# Altium schematic symbol library Quadcopter_Library.SchLib: 118 symbols (part 1 of 4)
Pins are listed as number, name and electrical type; pins without a type are passive.

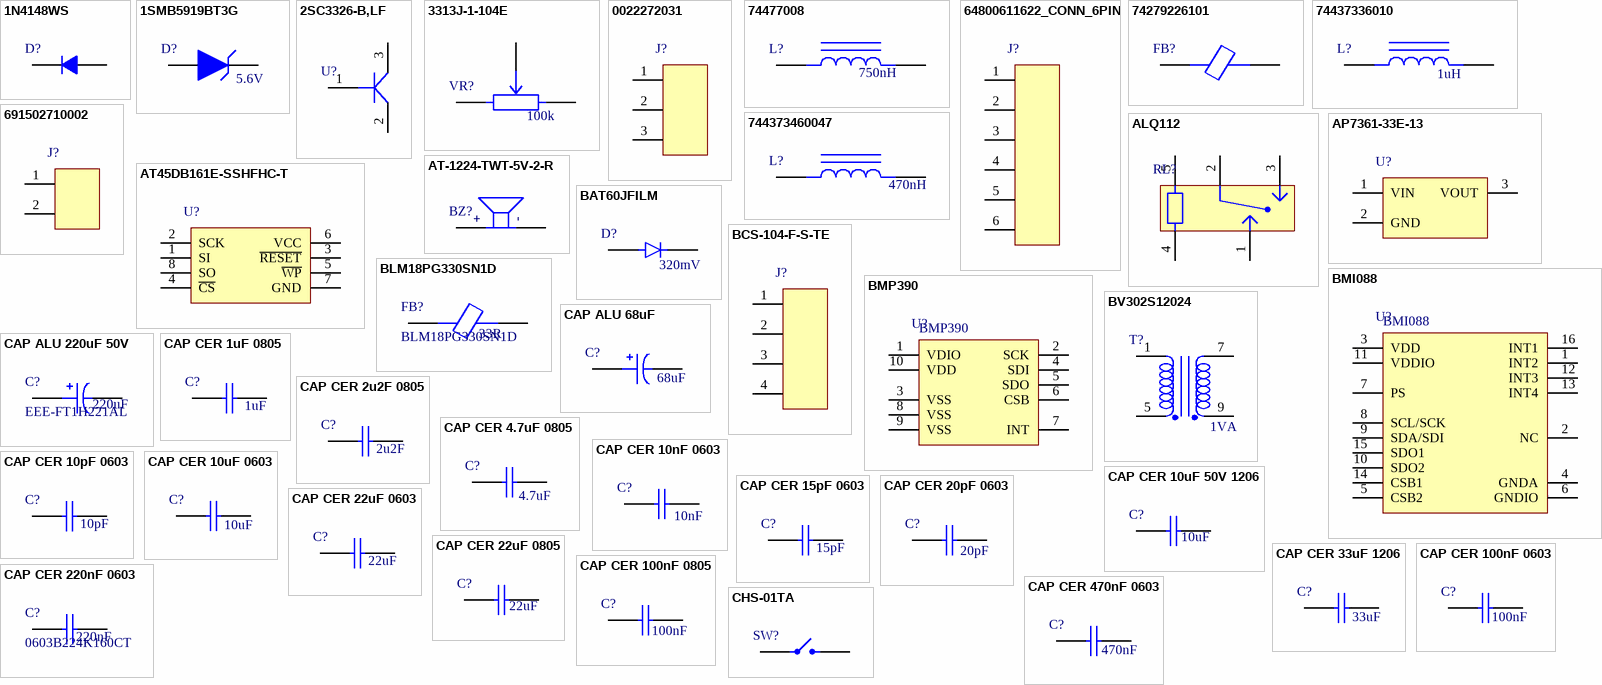
[diagram p0: symbols 1N4148WS to CHS-01TA]

## 1N4148WS
designator D?  (value not drawn)
Diode Ultra Fast Recovery Rectifier 75V 0.15A; Manufacturer: ON Semiconductor / Fairchild; Max Forward Surge Current (Ifsm): 2A; Forward Current: 150mA; Max Reverse Current: 5uA; Capacitance: 4pF; Reverse Recovery Time: 4ns; Element Configuration: Single; Designed By: Kubilay Közleme; Supplier 1: Digikey; Manufacturer Part Number: 1N4148WS; RoHS: Yes; Category: Rectifier Diodes; Stock 1: 304046; Pricing 1: 1=0.17, 10=0.104, 100=0.0639, 500=0.04644, 1000=0.04076 (USD); Mount: Surface Mount; Number of Pins: 2; Weight: 0.0276g; Min Operating Temperature: -55°C; Max Operating Temperature: 150°C; Max Repetitive Reverse Voltage (Vrrm): 75V; Reverse Voltage: 75V; Packaging: Tape and Reel; Average Rectified Current: 150mA; Max Reverse Voltage (DC): 75V; Series: -; Package Quantity: 1; Recovery Time: 4ns; Length: 1.8mm; Width: 1.35mm; Height: 1mm; Radiation Hardening: No; RoHS Compliant: Yes; Reach SVHC Compliant: No; Lead Free: 5697LeadFree; ComponentLink1URL: https://datasheet.ciiva.com/15208/getdatasheetpartid-127819-15208358.pdf?src-supplier=Verical; ComponentLink1Description: https://datasheet.ciiva.com/15208/getdatasheetpartid-127819-15208358.pdf?src-supplier=Verical; Supplier Part Number 1: 1N4148WSFSCT-ND
footprint SOD-323F
pins: 1, 2

## 1SMB5919BT3G
designator D?  Voltage Rating (DC): 5.6V  (hidden comment: 1SMB5919BT3G)
Diode Zener Single 5.6V 5% 550mW Automotive 2-Pin SMB T/R; Manufacturer: ON Semiconductor; Designed By: Kubilay Közleme; Material: 4239ConductorMaterial; Breakdown Voltage: 5.88V; Power Rating: 3W; Supplier 1: Digikey; Manufacturer Part Number: 1SMB5919BT3G; RoHS: Yes; Category: Zener Diodes; Stock 1: 16127; Pricing 1: 1=0.49, 10=0.302, 100=0.1917, 500=0.14376, 1000=0.12826 (USD); Lead Free: 5697LeadFree; Halogen Free: 5694HalogenFree; ComponentLink1URL: https://datasheet.ciiva.com/27747/1308331-27747654.pdf?src-supplier=Jameco; ComponentLink1Description: https://datasheet.ciiva.com/27747/1308331-27747654.pdf?src-supplier=Jameco; ComponentLink2URL: https://datasheet.ciiva.com/1182/1smb5913bt3-d-1182657.pdf?src-supplier=Element14; ComponentLink2Description: https://datasheet.ciiva.com/1182/1smb5913bt3-d-1182657.pdf?src-supplier=Element14; ComponentLink3URL: https://datasheet.ciiva.com/1182/1smb5913bt3-d-1182658.pdf?src-supplier=Element14; ComponentLink3Description: https://datasheet.ciiva.com/1182/1smb5913bt3-d-1182658.pdf?src-supplier=Element14; ComponentLink4URL: https://datasheet.ciiva.com/895/1smb5913bt3-d-895203.pdf?src-supplier=Digikey; ComponentLink4Description: https://datasheet.ciiva.com/895/1smb5913bt3-d-895203.pdf?src-supplier=Digikey; ComponentLink5URL: https://datasheet.ciiva.com/895/1smb5913bt3-d-895204.pdf?src-supplier=Digikey; ComponentLink5Description: https://datasheet.ciiva.com/895/1smb5913bt3-d-895204.pdf?src-supplier=Digikey; ComponentLink6URL: https://datasheet.ciiva.com/895/1smb5913bt3-d-895205.pdf?src-supplier=Digikey; ComponentLink6Description: https://datasheet.ciiva.com/895/1smb5913bt3-d-895205.pdf?src-supplier=Digikey; ComponentLink7URL: https://datasheet.ciiva.com/15198/getdatasheetpartid-311040-15198695.pdf?src-supplier=Verical; ComponentLink7Description: https://datasheet.ciiva.com/15198/getdatasheetpartid-311040-15198695.pdf?src-supplier=Verical; ComponentLink8URL: https://datasheet.ciiva.com/16311/1smb5913bt3-d-16311847.pdf?src-supplier=Future+Electronics; ComponentLink8Description: https://datasheet.ciiva.com/16311/1smb5913bt3-d-16311847.pdf?src-supplier=Future+Electronics; Supplier Part Number 1: 1SMB5919BT3GOSCT-ND
footprint SMB
pins: A, C

## 2SC3326-B,LF
designator U?  (value not drawn)
Small Signal Bipolar Transistor, 0.3A I(C), 20V V(BR)CEO, 1-Element, NPN, Silicon; Manufacturer: Toshiba; Supplier 1: Digikey; Manufacturer Part Number: 2SC3326-B,LF; RoHS: No; Category: BJTs; Stock 1: 197971; Pricing 1: 1=0.24, 10=0.159, 100=0.107, 500=0.08212, 1000=0.07378 (USD); RoHS Compliant: Yes; ComponentLink1URL: https://datasheet.ciiva.com:443/pdfs/VipMasterIC/IC/TOSC/TOSCS51235/TOSCS51235-1.pdf?src-supplier=IHS+Markit; ComponentLink1Description: https://datasheet.ciiva.com:443/pdfs/VipMasterIC/IC/TOSC/TOSCS51235/TOSCS51235-1.pdf?src-supplier=IHS+Markit; ComponentLink2URL: https://datasheet.ciiva.com/45423/6493-45423062.pdf?src-supplier=Digikey; ComponentLink2Description: https://datasheet.ciiva.com/45423/6493-45423062.pdf?src-supplier=Digikey; ComponentLink3URL: https://datasheet.ciiva.com/45423/6493-45423063.pdf?src-supplier=Digikey; ComponentLink3Description: https://datasheet.ciiva.com/45423/6493-45423063.pdf?src-supplier=Digikey; ComponentLink4URL: https://datasheet.ciiva.com/45423/6493-45423064.pdf?src-supplier=Digikey; ComponentLink4Description: https://datasheet.ciiva.com/45423/6493-45423064.pdf?src-supplier=Digikey; Supplier Part Number 1: 2SC3326-BLFDKR-ND; Parameter 1: *
footprint 2SC3326-B,LF (TO-236)
pins: 1, 2, 3

## 3313J-1-104E
designator VR?  Resistance: 100k  (hidden comment: 3313J-1-104E)
Trimmer, Cermet, 0.125W, 100000ohm, 200V, 20% +/-Tol, 100ppm/Cel, 1 Turn(s), 1413; Manufacturer: Bourns; Manufacturer Series: 3313; Actuator Orientation: Vertical; Actuator Type: SCREW; Number of Turns: 1; Rated Power Dissipation (P): 125mW; Rated Temperature: 70°C; Resistance Law: Linear; Rotational Angle: 250°; Temperature Coefficient: -100100ppm/°C; Package Height: 2.2mm; Package Length: 3.2mm; Package Width: 3.5mm; Designed By: Kubilay Közleme; Supplier 1: Digikey; Manufacturer Part Number: 3313J-1-104E; RoHS: Yes; Category: Variable Resistors and Potentiometers; Stock 1: 40223; Pricing 1: 1=1.83, 10=1.611, 25=1.4444, 50=1.3888, 100=1.3332, 250=1.27764, 500=1.05544 (USD); Mount: Surface Mount; Number of Pins: 3; Package Shape: Rectangular; Size Code: 1214; Terminal Finish: Tin; Min Operating Temperature: -55°C; Max Operating Temperature: 125°C; Tolerance: 20%; JESD-609 Code: e3; Resistor Type: TRIMMER; Construction: Rectangular; Package Style: SMTMeter; Packaging: Tape and Reel; Series: 3313; Technology: CERMET; Termination: Wraparound; Reach SVHC Compliant: Yes; RoHS Compliant: Yes; ComponentLink1URL: https://datasheet.ciiva.com:443/pdfs/VipMasterIC/IC/BOUR/BOUR-S-A0002523373/BOUR-S-A0002523373-1.pdf?src-supplier=IHS+Markit; ComponentLink1Description: https://datasheet.ciiva.com:443/pdfs/VipMasterIC/IC/BOUR/BOUR-S-A0002523373/BOUR-S-A0002523373-1.pdf?src-supplier=IHS+Markit; ComponentLink2URL: https://datasheet.ciiva.com/6197/1695326-6197399.pdf?src-supplier=Farnell; ComponentLink2Description: https://datasheet.ciiva.com/6197/1695326-6197399.pdf?src-supplier=Farnell; ComponentLink3URL: https://datasheet.ciiva.com/7953/1864507-7953226.pdf?src-supplier=Element14; ComponentLink3Description: https://datasheet.ciiva.com/7953/1864507-7953226.pdf?src-supplier=Element14; ComponentLink4URL: https://datasheet.ciiva.com/3266/3313-3266620.pdf?src-supplier=Avnet; ComponentLink4Description: https://datasheet.ciiva.com/3266/3313-3266620.pdf?src-supplier=Avnet; ComponentLink5URL: https://datasheet.ciiva.com/15156/getdatasheetpartid-133405-15156637.pdf?src-supplier=Verical; ComponentLink5Description: https://datasheet.ciiva.com/15156/getdatasheetpartid-133405-15156637.pdf?src-supplier=Verical; Supplier Part Number 1: 3313J-104EDKR-ND
footprint 3313J-1-104E
pins: CCW, CW, WIPER

## 0022272031
designator J?  (value not drawn)
Board Connector, 3 Contact(s), 1 Row(s), Male, Straight, 0.1 inch Pitch, Solder Terminal, Locking, White Insulator, Receptacle; Manufacturer: Molex; Option: General Purpose; Filter Feature: No; Mating Information: MULTIPLE MATING PARTS AVAILABLE; Number of Rows Loaded: 1; Number of Contacts: 3; Contact Pattern: RECTANGULAR; Contact Resistance: 10mR; Contact Style: SQ PIN-SKT; Durability: 25Cycles; Insulation Resistance: 1GR; Polarization Key: POLARIZED HOUSING; Rated Current (Signal): 4A; Body Breadth: 0.23inch; Body Depth: 0.46inch; Body Length: 0.3inch; Plating Thickness: 100uin; Reference Standard: UL; Reliability: COMMERCIAL; Designed By: Kubilay Közleme; Supplier 1: Digikey; Manufacturer Part Number: 22-27-2031; RoHS: Yes; Category: Headers and Wire Housings; Stock 1: 123474; Pricing 1: 1=0.46, 10=0.34, 100=0.2589, 500=0.21876, 2000=0.19237, 6000=0.1757, 10000=0.16902 (USD); Mount: Board; Contact Finish - Mating: TIN; Contact Finish - Termination: Tin (Sn); Contact Material: Brass; Insulation Color: White; Insulation Material: Nylon; Min Operating Temperature: 0°C; Max Operating Temperature: 75°C; Connector Type: BOARD CONNECTOR; JESD-609 Code: e3; Contact Gender: Male; Mixed Contacts: No; Mounting Style: STRAIGHT; Termination: Solder; Body/Shell Style: RECEPTACLE; Number Of Connectors: 1; Number Of PCB Rows: 1; PCB Contact Pattern: RECTANGULAR; Terminal Pitch: 2.54mm; Mating Contact Pitch: 0.1inch; Mounting Option 1: LOCKING; Terminal Length: 0.14inch; Flammability Rating: UL94 V-0; Reach SVHC Compliant: Yes; RoHS Compliant: Yes; DIN Conformance: No; IEC Conformance: No; MIL Conformance: No; ComponentLink1URL: https://datasheet.ciiva.com:443/pdfs/VipMasterIC/IC/MOLE/MOLE-E-A0003552261/MOLE-S-A0003534498-1.pdf?src-supplier=IHS+Markit; ComponentLink1Description: https://datasheet.ciiva.com:443/pdfs/VipMasterIC/IC/MOLE/MOLE-E-A0003552261/MOLE-S-A0003534498-1.pdf?src-supplier=IHS+Markit; Supplier Part Number 1: WM4112-ND
footprint 0022272031
pins: 1, 2, 3

## 74477008
designator L?  Inductor Value: 750nH  (hidden comment: 74477008)
General Purpose Inductor, 0.75uH, 1 Element, SMD, 4848; Manufacturer: Wurth Electronics; Designed By: Kubilay Közleme; Supplier 1: Digikey; Manufacturer Part Number: 74477008; RoHS: Yes; Category: Fixed Inductors; Stock 1: 473; Pricing 1: 1=2.39, 10=2.239, 50=2.079, 100=1.897, 250=1.695 (USD); Terminal Finish: Copper; JESD-609 Code: e1; Inductor Type: GENERAL PURPOSE INDUCTOR; Manufacturer Series: 74477008; Reach SVHC Compliant: Yes; RoHS Compliant: Yes; ComponentLink1URL: https://datasheet.ciiva.com:443/pdfs/VipMasterIC/IC/MIDC/MIDC-S-A0007237670/MIDC-S-A0007081658-1.pdf?src-supplier=IHS+Markit; ComponentLink1Description: https://datasheet.ciiva.com:443/pdfs/VipMasterIC/IC/MIDC/MIDC-S-A0007237670/MIDC-S-A0007081658-1.pdf?src-supplier=IHS+Markit; ComponentLink2URL: https://datasheet.ciiva.com/6697/74477008-6697165.pdf?src-supplier=Digikey; ComponentLink2Description: https://datasheet.ciiva.com/6697/74477008-6697165.pdf?src-supplier=Digikey; ComponentLink3URL: https://datasheet.ciiva.com/23790/1645883-23790768.pdf?src-supplier=Newark; ComponentLink3Description: https://datasheet.ciiva.com/23790/1645883-23790768.pdf?src-supplier=Newark; ComponentLink4URL: https://datasheet.ciiva.com/13320/74477008-69588-13320842.pdf?src-supplier=Mouser; ComponentLink4Description: https://datasheet.ciiva.com/13320/74477008-69588-13320842.pdf?src-supplier=Mouser; ComponentLink5URL: https://datasheet.ciiva.com/30489/0900766b81281b7c-30489835.pdf?src-supplier=Rs; ComponentLink5Description: https://datasheet.ciiva.com/30489/0900766b81281b7c-30489835.pdf?src-supplier=Rs; Supplier Part Number 1: 732-4118-1-ND
footprint 74477008
pins: 1, 2

## 64800611622_CONN_6PIN
designator J?, comment 64800611622  (value not drawn)
WR-WTB Wire-to-Board Connectors 1.50 mm 6 pin connector; Manufacturer: Wurth Electronics; Designed By: Kubilay Közleme; Supplier 1: Digikey; Manufacturer Part Number: 64800611622; RoHS: No; Category: Uncategorized; Stock 1: 1307; Pricing 1: 1=0.41, 50=0.406, 100=0.384, 250=0.361, 500=0.339 (USD); Supplier Part Number 1: 732-64800611622-ND
footprint 64800611622
pins: 1, 2, 3, 4, 5, 6

## 74279226101
designator FB?  (value not drawn)
Ferrite Chip, 1 Function(s), 8A, 2 Pin(s); Manufacturer: Wurth Electronics; DC Resistance-Max: 6mR; Max Frequency: 1.1GHz; Min Frequency: 100MHz; Number of Functions: 1; Output Impedance: 100R; Designed By: Kubilay Közleme; Supplier 1: Digikey; Manufacturer Part Number: 74279226101; RoHS: Yes; Category: Ferrite Beads and Chips; Stock 1: 41612; Pricing 1: 1=0.68, 10=0.668, 100=0.645, 500=0.62, 1000=0.597 (USD); Mount: Surface Mount; Material: Ferrite; Case Code: 1812; Min Operating Temperature: -55°C; Max Operating Temperature: 125°C; Construction: Chip Bead; Filter Type: FERRITE CHIP; Packaging: Tape and Reel; Current Rating: 8A; Length: 4.5mm; Width: 3.2mm; Height: 2.3mm; Reach SVHC Compliant: Yes; RoHS Compliant: Yes; ComponentLink1URL: https://datasheet.ciiva.com:443/pdfs/VipMasterIC/IC/MIDC/MIDC-S-A0008919821/MIDC-S-A0008919731-1.pdf?src-supplier=IHS+Markit; ComponentLink1Description: https://datasheet.ciiva.com:443/pdfs/VipMasterIC/IC/MIDC/MIDC-S-A0008919821/MIDC-S-A0008919731-1.pdf?src-supplier=IHS+Markit; ComponentLink2URL: https://datasheet.ciiva.com/11795/0900766b8103b532-11795775.pdf?src-supplier=Rs; ComponentLink2Description: https://datasheet.ciiva.com/11795/0900766b8103b532-11795775.pdf?src-supplier=Rs; ComponentLink3URL: https://datasheet.ciiva.com/1126/1696196-1126762.pdf?src-supplier=Element14; ComponentLink3Description: https://datasheet.ciiva.com/1126/1696196-1126762.pdf?src-supplier=Element14; ComponentLink4URL: https://datasheet.ciiva.com/6212/74279226101-6212616.pdf?src-supplier=Digikey; ComponentLink4Description: https://datasheet.ciiva.com/6212/74279226101-6212616.pdf?src-supplier=Digikey; ComponentLink5URL: https://datasheet.ciiva.com/4940/74279226101-72150-4940419.pdf?src-supplier=Mouser; ComponentLink5Description: https://datasheet.ciiva.com/4940/74279226101-72150-4940419.pdf?src-supplier=Mouser; ComponentLink6URL: https://datasheet.ciiva.com/23762/74279226101-23762966.pdf?src-supplier=Newark; ComponentLink6Description: https://datasheet.ciiva.com/23762/74279226101-23762966.pdf?src-supplier=Newark; ComponentLink7URL: https://datasheet.ciiva.com/6212/74279226101-6212619.pdf?src-supplier=Digikey; ComponentLink7Description: https://datasheet.ciiva.com/6212/74279226101-6212619.pdf?src-supplier=Digikey; ComponentLink8URL: https://datasheet.ciiva.com/1013/74279226101-1013739.pdf?src-supplier=Digikey; ComponentLink8Description: https://datasheet.ciiva.com/1013/74279226101-1013739.pdf?src-supplier=Digikey; ComponentLink9URL: https://datasheet.ciiva.com/48698/001087019-da-01-ml-we-mpsb-emi-mult-pow-sup-bead74279-de-en-48698459.pdf?src-supplier=Conrad; ComponentLink9Description: https://datasheet.ciiva.com/48698/001087019-da-01-ml-we-mpsb-emi-mult-pow-sup-bead74279-de-en-48698459.pdf?src-supplier=Conrad; Supplier Part Number 1: 732-3431-6-ND
footprint 74279226101 (1812)
pins: 1, 2

## 74437336010
designator L?  Inductance Value: 1uH  (hidden comment: 74437336010)
General Purpose Inductor, 1uH, 20%, 1 Element, Powdered  Iron-Core, SMD, 2220; Manufacturer: Wurth Electronics; Designed By: Kubilay Közleme; Supplier 1: Digikey; Manufacturer Part Number: 74437336010; RoHS: Yes; Category: Fixed Inductors; Stock 1: 2161; Pricing 1: 1=2.71, 50=2.517, 100=2.289, 250=2.08, 500=1.891 (USD); Terminal Finish: Copper; JESD-609 Code: e2; Inductor Type: GENERAL PURPOSE INDUCTOR; Manufacturer Series: 74437336010; Reach SVHC Compliant: Yes; RoHS Compliant: Yes; ComponentLink1URL: https://datasheet.ciiva.com:443/pdfs/VipMasterIC/IC/MIDC/MIDC-S-A0001528209/MIDC-S-A0001528770-1.pdf?src-supplier=IHS+Markit; ComponentLink1Description: https://datasheet.ciiva.com:443/pdfs/VipMasterIC/IC/MIDC/MIDC-S-A0001528209/MIDC-S-A0001528770-1.pdf?src-supplier=IHS+Markit; ComponentLink2URL: http://www.farnell.com/datasheets/1880907.pdf?src-supplier=Farnell; ComponentLink2Description: http://www.farnell.com/datasheets/1880907.pdf?src-supplier=Farnell; ComponentLink3URL: https://katalog.we-online.de/pbs/datasheet/74437336010.pdf?src-supplier=Digikey; ComponentLink3Description: https://katalog.we-online.de/pbs/datasheet/74437336010.pdf?src-supplier=Digikey; ComponentLink4URL: http://www.farnell.com/datasheets/1880907.pdf?src-supplier=Element14; ComponentLink4Description: http://www.farnell.com/datasheets/1880907.pdf?src-supplier=Element14; Supplier Part Number 1: 732-6162-6-ND
footprint 74437336010
pins: 1, 2

## 691502710002
designator J?  (value not drawn)
Terminal Block, Wtb, 2Way, 22-14Awg Rohs Compliant: Yes |Wurth Elektronik 691502710002; Manufacturer: Wurth Electronics; Designed By: Kubilay Közleme; Supplier 1: Digikey; Manufacturer Part Number: 691502710002; RoHS: No; Category: Terminal Blocks; Stock 1: 52389; Pricing 1: 1=0.69, 10=0.64, 50=0.608, 100=0.568, 450=0.486 (USD); Supplier Part Number 1: 732-691502710002-ND
footprint 691502710002
pins: 1, 2

## 744373460047
designator L?  Inductance-Nom (L): 470nH  (hidden comment: 744373460047)
General Purpose Inductor, 0.47uH, 20%, 1 Element, Powdered  Iron-Core, SMD, 2926; Manufacturer: Wurth Electronics; Core Material: Ferrite; Case/Size Code: 2926; DC Resistance (DCR): 4mR; Rated Current-Max: 11.5A; Self Resonant Frequency: 91MHz; Package Height: 2.8mm; Package Length: 7.3mm; Package Width: 6.6mm; Designed By: Kubilay Közleme; Supplier 1: Digikey; Manufacturer Part Number: 744373460047; RoHS: Yes; Category: Fixed Inductors; Stock 1: 2729; Pricing 1: 1=2.24, 10=2.204, 50=2.034, 100=1.864, 500=1.78 (USD); Terminal Finish: Copper; Min Operating Temperature: -40°C; Max Operating Temperature: 125°C; Tolerance: 20%; JESD-609 Code: e2; Construction: Chip; Inductor Type: GENERAL PURPOSE INDUCTOR; Manufacturer Series: 744373460047; Package Style: SMTMeter; Packaging: Tape and Reel; Series: 744373460047; Reach SVHC Compliant: Yes; RoHS Compliant: Yes; ComponentLink1URL: https://datasheet.ciiva.com:443/pdfs/VipMasterIC/IC/MIDC/MIDC-S-A0001527085/MIDC-S-A0001527019-1.pdf?src-supplier=IHS+Markit; ComponentLink1Description: https://datasheet.ciiva.com:443/pdfs/VipMasterIC/IC/MIDC/MIDC-S-A0001527085/MIDC-S-A0001527019-1.pdf?src-supplier=IHS+Markit; ComponentLink2URL: https://datasheet.ciiva.com/6698/744373460047-6698215.pdf?src-supplier=Digikey; ComponentLink2Description: https://datasheet.ciiva.com/6698/744373460047-6698215.pdf?src-supplier=Digikey; ComponentLink3URL: https://datasheet.ciiva.com/7892/1735834-7892729.pdf?src-supplier=Element14; ComponentLink3Description: https://datasheet.ciiva.com/7892/1735834-7892729.pdf?src-supplier=Element14; ComponentLink4URL: https://datasheet.ciiva.com/4961/744373460047-82358-4961055.pdf?src-supplier=Mouser; ComponentLink4Description: https://datasheet.ciiva.com/4961/744373460047-82358-4961055.pdf?src-supplier=Mouser; ComponentLink5URL: https://datasheet.ciiva.com/25608/0900766b810c01f2-25608139.pdf?src-supplier=Rs; ComponentLink5Description: https://datasheet.ciiva.com/25608/0900766b810c01f2-25608139.pdf?src-supplier=Rs; ComponentLink6URL: https://datasheet.ciiva.com/14124/744373460047-14124029.pdf?src-supplier=Distrelec; ComponentLink6Description: https://datasheet.ciiva.com/14124/744373460047-14124029.pdf?src-supplier=Distrelec; ComponentLink7URL: https://datasheet.ciiva.com/48691/001087570-da-01-ml-we-lhmi-smd-speicherdrossel-744373-de-en-48691590.pdf?src-supplier=Conrad; ComponentLink7Description: https://datasheet.ciiva.com/48691/001087570-da-01-ml-we-lhmi-smd-speicherdrossel-744373-de-en-48691590.pdf?src-supplier=Conrad; Supplier Part Number 1: 732-3366-6-ND
footprint 744373460047
pins: 1, 2

## ALQ112
designator RL?  (value not drawn)
Electromechanical Relay 12VDC 360Ohm 10(NO)/3(NC)A SPDT (( 20mm 10mm 16mm)) THT Power Relay; Manufacturer: Panasonic; Designed By: Kubilay Közleme; Supplier 1: Digikey; Manufacturer Part Number: ALQ112; RoHS: Yes; Category: Power Relays; Stock 1: 22091; Pricing 1: 1=1.28, 10=1.204, 25=1.0704, 50=1.017, 100=0.9635, 300=0.85647, 500=0.80296, 1000=0.74942, 5000=0.72266 (USD); ComponentLink1URL: https://datasheet.ciiva.com/24388/307ds-61b20-en-lq-24388909.pdf?src-supplier=Onlinecomponents.com; ComponentLink1Description: https://datasheet.ciiva.com/24388/307ds-61b20-en-lq-24388909.pdf?src-supplier=Onlinecomponents.com; Supplier Part Number 1: 255-3562-ND; Case/Package: ALQ112
footprint ALQ112
pins: 1, 2, 3, 4, 5

## AP7361-33E-13
designator U?  (value not drawn)
AP7361 Series 3.3 V 1 A Low SMT Dropout Fixed-Mode Regulator - SOT-223; Manufacturer: Diodes; Number of Outputs: 1; Min Input Voltage: 2.2V; Max Input Voltage: 6V; Max Output Current: 1A; Output Voltage: 3.3V; Max Power Dissipation: 1.1W; Dropout Voltage: 500mV; Min Current Limit: 1.1A; Polarity: Positive; Quiescent Current: 70uA; Power Dissipation: 1.1kW; Accuracy: 1%; Power Supply Rejection Ratio (PSRR): 65dB; Reference Voltage: 800mV; Output Type: Fixed; Designed By: Kubilay Közleme; Supplier 1: Digikey; Manufacturer Part Number: AP7361-33E-13; RoHS: Yes; Category: Voltage Regulators - Linear; Stock 1: 111269; Pricing 1: 1=0.51, 10=0.414, 25=0.3788, 100=0.2818, 250=0.2554, 500=0.21138, 1000=0.15853 (USD); Mount: Surface Mount; Case/Package: SOT-223; Number of Pins: 4; Weight: 0.000282oz; Contact Plating: Tin,Matte; Min Operating Temperature: -40°C; Max Operating Temperature: 85°C; Package Quantity: 1; Packaging: Tape and Reel; Output Current: 1A; Number of Regulators: 1; Series: -; Radiation Hardening: No; Reach SVHC Compliant: Yes; Lead Free: Lead Free; RoHS Compliant: Yes; ComponentLink1URL: https://datasheet.ciiva.com/26926/getdatasheetpartid-670786-26926141.pdf?src-supplier=Verical; ComponentLink1Description: https://datasheet.ciiva.com/26926/getdatasheetpartid-670786-26926141.pdf?src-supplier=Verical; ComponentLink2URL: https://datasheet.ciiva.com/29568/ap7361-29568378.pdf?src-supplier=Digikey; ComponentLink2Description: https://datasheet.ciiva.com/29568/ap7361-29568378.pdf?src-supplier=Digikey; Supplier Part Number 1: AP7361-33E-13DIDKR-ND
footprint SOT223
pins: 1 VIN, 2 GND, 3 VOUT

## AT45DB161E-SSHFHC-T
designator U?  (value not drawn)
IC FLASH 16MBIT SPI 85MHZ 8SOIC; Manufacturer: Renesas; Designed By: Kubilay Közleme; Supplier 1: Digikey; Manufacturer Part Number: AT45DB161E-SSHFHC-T; RoHS: No; Stock 1: 95294; Pricing 1: 1=2.85, 10=2.566, 25=2.526, 50=2.5196, 100=2.2513, 250=2.17732, 500=2.16942, 1000=2.02012 (USD); ComponentLink1URL: https://datasheet.ciiva.com:443/pdfs/VipMasterIC/IC/DIAL/DIAL-S-A0012811765/DIAL-S-A0012903641-1.pdf?src-supplier=IHS+Markit; ComponentLink1Description: https://datasheet.ciiva.com:443/pdfs/VipMasterIC/IC/DIAL/DIAL-S-A0012811765/DIAL-S-A0012903641-1.pdf?src-supplier=IHS+Markit; Supplier Part Number 1: AT45DB161E-SSHFHC-TDKR-ND
footprint SOIC-8
pins: 1 SI, 2 SCK, 3 ~{RESET}, 4 ~{CS}, 5 ~{WP}, 6 VCC, 7 GND, 8 SO

## AT-1224-TWT-5V-2-R
designator BZ?  (value not drawn)
Audio Signaling/Alarm Devices; Manufacturer: Projects Unlimited; Designed By: Kubilay Közleme; Supplier 1: Digikey; Manufacturer Part Number: AT-1224-TWT-5V-2-R; RoHS: Yes; Category: Audio Products; Stock 1: 27971; Pricing 1: 1=0.51, 10=0.419, 25=0.3864, 40=0.3705, 100=0.3414, 300=0.3098, 500=0.29614, 1000=0.27865, 4900=0.24261 (USD); ComponentLink1URL: https://datasheet.ciiva.com:443/pdfs/VipMasterIC/IC/PUIA/PUIA-S-A0001553786/PUIA-S-A0001553786-1.pdf?src-supplier=IHS+Markit; ComponentLink1Description: https://datasheet.ciiva.com:443/pdfs/VipMasterIC/IC/PUIA/PUIA-S-A0001553786/PUIA-S-A0001553786-1.pdf?src-supplier=IHS+Markit; ComponentLink2URL: http://www.mouser.com/ds/2/334/AT-1224-TWT-5V-2-R-532234.pdf?src-supplier=Mouser; ComponentLink2Description: http://www.mouser.com/ds/2/334/AT-1224-TWT-5V-2-R-532234.pdf?src-supplier=Mouser; ComponentLink3URL: http://www.puiaudio.com/pdf/AT-1224-TWT-5V-2-R.pdf?src-supplier=Digikey; ComponentLink3Description: http://www.puiaudio.com/pdf/AT-1224-TWT-5V-2-R.pdf?src-supplier=Digikey; ComponentLink4URL: http://www.puiaudio.com/pdf/AT-1224-TWT-5V-2-R.pdf?src-supplier=Avnet; ComponentLink4Description: http://www.puiaudio.com/pdf/AT-1224-TWT-5V-2-R.pdf?src-supplier=Avnet; Supplier Part Number 1: 668-1470-ND
footprint AT-1224-TWT-5V-2-R
pins: N -, P +

## BAT60JFILM
designator D?  Forward Voltage-Max (VF): 320mV  (hidden comment: BAT60JFILM)
Rectifier Diode, Schottky, 1 Phase, 1 Element, 3A, 10V V(RRM), Silicon; Manufacturer: STMicroelectronics; Package Body Material: Plastic; Application(s): GENERAL PURPOSE; Non-rep Pk Forward Current-Max: 5A; Number of Elements: 1; Max Power Dissipation: 310mW; Time @ Peak Reflow Temperature-Max (s): 30s; Qualification Status: Not Qualified; Designed By: Kubilay Közleme; Supplier 1: Digikey; Manufacturer Part Number: BAT60JFILM; RoHS: Yes; Category: Rectifier Diodes; Stock 1: 166671; Pricing 1: 1=0.22, 10=0.15, 100=0.1007, 500=0.07718, 1000=0.06926 (USD); Number of Pins: 2; Diode Element Material: SILICON; Package Shape: Rectangular; Terminal Finish: Tin; Max Operating Temperature: 150°C; JESD-609 Code: e3; Diode Type: RECTIFIER; JESD-30 Code: R-PDSO-G2; Moisture Sensitivity Level: 1; Number of Phases: 1; Max Output Current: 3A; Package Style: SMALL OUTLINEMeter; Peak Reflow Temperature (Cel): 260°C; Rep Pk Reverse Voltage-Max: 10V; Surface Mount: Yes; Technology: SCHOTTKY; Terminal Form: Gull Wing; Terminal Position: DUAL; Reach SVHC Compliant: Yes; RoHS Compliant: Yes; ComponentLink1URL: https://datasheet.ciiva.com:443/pdfs/VipMasterIC/IC/SGST/SGSTS19081/SGSTS19081-1.pdf?src-supplier=IHS+Markit; ComponentLink1Description: https://datasheet.ciiva.com:443/pdfs/VipMasterIC/IC/SGST/SGSTS19081/SGSTS19081-1.pdf?src-supplier=IHS+Markit; ComponentLink2URL: https://datasheet.ciiva.com/1200/1689728-1200741.pdf?src-supplier=Farnell; ComponentLink2Description: https://datasheet.ciiva.com/1200/1689728-1200741.pdf?src-supplier=Farnell; ComponentLink3URL: https://datasheet.ciiva.com/4714/cd00001944-96586-4714681.pdf?src-supplier=Mouser; ComponentLink3Description: https://datasheet.ciiva.com/4714/cd00001944-96586-4714681.pdf?src-supplier=Mouser; ComponentLink4URL: https://datasheet.ciiva.com/23916/cd00001944-23916545.pdf?src-supplier=Newark; ComponentLink4Description: https://datasheet.ciiva.com/23916/cd00001944-23916545.pdf?src-supplier=Newark; ComponentLink5URL: https://datasheet.ciiva.com/17078/bat60jfilm-17078717.pdf?src-supplier=Allied+Electronics; ComponentLink5Description: https://datasheet.ciiva.com/17078/bat60jfilm-17078717.pdf?src-supplier=Allied+Electronics; ComponentLink6URL: https://datasheet.ciiva.com/915/cd00001944-915607.pdf?src-supplier=Digikey; ComponentLink6Description: https://datasheet.ciiva.com/915/cd00001944-915607.pdf?src-supplier=Digikey; ComponentLink7URL: https://datasheet.ciiva.com/915/cd00001944-915608.pdf?src-supplier=Digikey; ComponentLink7Description: https://datasheet.ciiva.com/915/cd00001944-915608.pdf?src-supplier=Digikey; ComponentLink8URL: https://datasheet.ciiva.com/915/cd00001944-915609.pdf?src-supplier=Digikey; ComponentLink8Description: https://datasheet.ciiva.com/915/cd00001944-915609.pdf?src-supplier=Digikey; ComponentLink9URL: https://datasheet.ciiva.com/15144/getdatasheetpartid-91415-15144683.pdf?src-supplier=Verical; ComponentLink9Description: https://datasheet.ciiva.com/15144/getdatasheetpartid-91415-15144683.pdf?src-supplier=Verical; Supplier Part Number 1: 497-3707-1-ND
footprint SOD-323
pins: A, C

## BCS-104-F-S-TE
designator J?  (value not drawn)
Board Connector, 4 Contact(s), 1 Row(s), Female, Straight, Solder Terminal, Socket; Manufacturer: Samtec; Manufacturer Series: BCS-1; Option: General Purpose; Filter Feature: No; Mating Information: MULTIPLE MATING PARTS AVAILABLE; Number of Rows Loaded: 1; Number of Contacts: 4; Designed By: Kubilay Közleme; Supplier 1: Digikey; Manufacturer Part Number: BCS-104-F-S-TE; RoHS: Yes; Category: Connectors; Stock 1: 3894; Pricing 1: 1=1.14, 50=0.951, 100=0.8128, 500=0.7223, 1000=0.6375 (USD); Mount: Board; Contact Material: Bronze; Contact Finish - Mating: GOLD FLASH (3) OVER NICKEL (50); Contact Finish - Termination: Tin (Sn) - with Nickel (Ni) barrier; Connector Type: BOARD CONNECTOR; JESD-609 Code: e3; Body/Shell Style: SOCKET; Contact Gender: Female; Mixed Contacts: No; Mounting Style: STRAIGHT; Termination: Solder; Terminal Pitch: 2.54mm; Flammability Rating: UL94 V-0; DIN Conformance: No; IEC Conformance: No; MIL Conformance: No; Reach SVHC Compliant: Yes; RoHS Compliant: Yes; ComponentLink1URL: https://datasheet.ciiva.com:443/pdfs/VipMasterIC/IC/SAMI/SAMI-S-A0002541218/SAMI-S-A0002541218-1.pdf?src-supplier=IHS+Markit; ComponentLink1Description: https://datasheet.ciiva.com:443/pdfs/VipMasterIC/IC/SAMI/SAMI-S-A0002541218/SAMI-S-A0002541218-1.pdf?src-supplier=IHS+Markit; ComponentLink2URL: https://datasheet.ciiva.com/10180/bcs-10180171.pdf?src-supplier=Avnet; ComponentLink2Description: https://datasheet.ciiva.com/10180/bcs-10180171.pdf?src-supplier=Avnet; Supplier Part Number 1: BCS-104-F-S-TE-ND
footprint BCS-104-F-S-TE
pins: 1, 2, 3, 4

## BLM18PG330SN1D
designator FB?  Impedance: 33R
Ferrite Beads Multi-Layer 33 Ohm 25% 100MHz 3A 25m Ohm DCR 0603 Paper; Manufacturer: Murata; Manufacturer Series: BLM18P; Material: Steel,Ferrite; Resistance: 25mR; Number of Lines: 1; Shielding: Unshielded; Designed By: Kubilay Közleme; Supplier 1: Digikey; Manufacturer Part Number: BLM18PG330SN1D; RoHS: Yes; Category: Ferrite Beads and Chips; Stock 1: 80000; Pricing 1: 4000=0.0223, 8000=0.01943, 12000=0.01785, 20000=0.01725 (USD); Case/Package: 0603; Number of Pins: 2; Core Material: Ferrite; Case Code (Metric): 1608; Case Code (Imperial): 0603; Terminal Finish: Tin; Min Operating Temperature: -55°C; Max Operating Temperature: 125°C; Package Quantity: 1; Tolerance: 25%; Packaging: Tape and Reel; Current Rating: 3A; ESR (Equivalent Series Resistance): 33R; Max Current Rating: 3A; DC Resistance (DCR): 25mR; Max DC Current: 3A; Termination: SMD/SMT; Test Frequency: 100MHz; DC Current: 3A; Number of Circuits: 1; Series: BLM18P; DC Resistance-Max: 25mR; Number of Functions: 1; RMS Current (Irms): 3A; Series Resistance: 25mR; Length: 1.6mm; Width: 0.8mm; Height: 0.8mm; Depth: 0.8mm; Radiation Hardening: No; Reach SVHC Compliant: No; Lead Free: Lead Free; RoHS Compliant: Yes; ComponentLink1URL: https://datasheet.ciiva.com/8021/5148-8021488.pdf?src-supplier=Element14; ComponentLink1Description: https://datasheet.ciiva.com/8021/5148-8021488.pdf?src-supplier=Element14; ComponentLink2URL: https://datasheet.ciiva.com/19458/1845056-19458409.pdf?src-supplier=Jameco; ComponentLink2Description: https://datasheet.ciiva.com/19458/1845056-19458409.pdf?src-supplier=Jameco; ComponentLink3URL: https://datasheet.ciiva.com/1012/l0110s0100blm18p-1012160.pdf?src-supplier=Digikey; ComponentLink3Description: https://datasheet.ciiva.com/1012/l0110s0100blm18p-1012160.pdf?src-supplier=Digikey; ComponentLink4URL: https://datasheet.ciiva.com/11799/0900766b81275ca5-11799524.pdf?src-supplier=Rs; ComponentLink4Description: https://datasheet.ciiva.com/11799/0900766b81275ca5-11799524.pdf?src-supplier=Rs; ComponentLink5URL: https://datasheet.ciiva.com/1012/l0110s0100blm18p-1012159.pdf?src-supplier=Digikey; ComponentLink5Description: https://datasheet.ciiva.com/1012/l0110s0100blm18p-1012159.pdf?src-supplier=Digikey; ComponentLink6URL: https://datasheet.ciiva.com/1012/l0110s0100blm18p-1012158.pdf?src-supplier=Digikey; ComponentLink6Description: https://datasheet.ciiva.com/1012/l0110s0100blm18p-1012158.pdf?src-supplier=Digikey; ComponentLink7URL: https://datasheet.ciiva.com/16420/l0110s0100blm18p-16420745.pdf?src-supplier=Future+Electronics; ComponentLink7Description: https://datasheet.ciiva.com/16420/l0110s0100blm18p-16420745.pdf?src-supplier=Future+Electronics; Supplier Part Number 1: 490-5220-2-ND
footprint BLM18PG330SN1D
pins: 1, 2

## BMI088
designator U?
BMI088 Series 3.6 V 6 Axis Digital Output Accelerometer Motion Sensor - LGA-16; Manufacturer: Bosch Tools; Designed By: Kubilay Közleme; Supplier 1: Digikey; RoHS: No; Category: Linear ICs; Stock 1: 2439; Pricing 1: 1=6.94, 5=5.854, 10=5.44, 25=4.9368, 50=4.5878, 100=4.2636, 500=3.59692, 1000=3.34313 (USD); ComponentLink1URL: https://ae-bst.resource.bosch.com/media/_tech/media/product_flyer/Bosch_Sensortec_Product_flyer_BMI088.pdf?src-supplier=Digikey; ComponentLink1Description: https://ae-bst.resource.bosch.com/media/_tech/media/product_flyer/Bosch_Sensortec_Product_flyer_BMI088.pdf?src-supplier=Digikey; ComponentLink2URL: https://ae-bst.resource.bosch.com/media/_tech/media/application_notes/BST-MIS-HS001.pdf?src-supplier=Digikey; ComponentLink2Description: https://ae-bst.resource.bosch.com/media/_tech/media/application_notes/BST-MIS-HS001.pdf?src-supplier=Digikey; Supplier Part Number 1: 828-1082-1-ND; Manufacturer Part Number: BMI088
footprint BMI088 (LGA-10)
pins: 1 INT2, 2 NC, 3 VDD, 4 GNDA, 5 CSB2, 6 GNDIO, 7 PS, 8 SCL/SCK, 9 SDA/SDI, 10 SDO2, 11 VDDIO, 12 INT3, 13 INT4, 14 CSB1, 15 SDO1, 16 INT1

## BMP390
designator U?
Board Mount Pressure Sensor 300hPa to 1250hPa Barometric 10-Pin LGA Module T/R; Manufacturer: Bosch Tools; Designed By: Kubilay Közleme; Supplier 1: Digikey; RoHS: No; Category: Linear ICs; Stock 1: 20995; Pricing 1: 1=4.17, 5=3.512, 10=3.264, 25=2.9616, 50=2.752, 100=2.5575, 500=2.15742, 1000=2.00514, 5000=1.7 (USD); Supplier Part Number 1: 828-BMP390CT-ND; Manufacturer Part Number: BMP390
footprint BMP390 - 10LGA
pins: 1 VDIO, 2 SCK, 3 VSS, 4 SDI, 5 SDO, 6 CSB, 7 INT, 8 VSS, 9 VSS, 10 VDD

## BV302S12024
designator T?  (value not drawn)
2.4VA Encapsulated Transformer 50/60Hz; Manufacturer: Zettler Magnetics; Designed By: Kubilay Közleme; Supplier 1: DigiKey; Manufacturer Part Number: BV302S12024; Stock 1: 298; Pricing 1: 1=3.75, 15=3.038, 30=2.45633, 60=2.30117, 105=2.19771, 255=2.13314, 510=2.06847, 1005=2.00384, 5010=1.84224 (USD); ComponentLink1URL: https://datasheet.octopart.com/BV302S12024-Zettler-Magnetics-datasheet-86381448.pdf?src-supplier=Future+Electronics; ComponentLink1Description: https://datasheet.octopart.com/BV302S12024-Zettler-Magnetics-datasheet-86381448.pdf?src-supplier=Future+Electronics; Supplier Part Number 1: 3388-BV302S12024-ND
footprint BV302S
pins: 1, 5, 7, 9
text: 1VA

## CAP ALU 68uF
designator C?, comment value 68uF  (hidden comment: EEV686M035A9HAA)
Cap Aluminum Lytic 68uF 35V 20%( 6.3 X 7.7mm) SMD 0.34 Ohm 280mA 2000h 105C T/R; Manufacturer: KEMET; Designed By: Kubilay Közleme; Supplier 1: Digikey; Manufacturer Part Number: EEV686M035A9HAA; RoHS: Yes; Category: Aluminum Electrolytic Capacitors; Stock 1: 22750; Pricing 1: 1=0.41, 10=0.277, 50=0.2204, 100=0.1819, 500=0.14214 (USD); ComponentLink1URL: https://datasheet.ciiva.com/5365/kem-a4002-eev-535332-5365784.pdf?src-supplier=Mouser; ComponentLink1Description: https://datasheet.ciiva.com/5365/kem-a4002-eev-535332-5365784.pdf?src-supplier=Mouser; Supplier Part Number 1: 399-6722-1-ND
footprint CAP_EEVseries
pins: 1, 2

## CAP ALU 220uF 50V
designator C?, comment EEE-FT1H221AL  Capacitance Value: 220uF
Cap Aluminum Lytic 220uF 50V 20% (8 X 10.2mm) SMD 0.18 Ohm 670mA 2000h 105C Automotive T/R; Manufacturer: Panasonic; Designed By: Kubilay Közleme; Supplier 1: Digikey; Manufacturer Part Number: EEE-FT1H221AL; RoHS: No; Category: Capacitors; Stock 1: 468; Pricing 1: 1=1.24, 10=0.773, 50=0.5852, 100=0.5266 (USD); ComponentLink1URL: https://datasheet.octopart.com/EEEFT1H221AL-Panasonic-datasheet-166314008.pdf?src-supplier=Farnell; ComponentLink1Description: https://datasheet.octopart.com/EEEFT1H221AL-Panasonic-datasheet-166314008.pdf?src-supplier=Farnell; Supplier Part Number 1: 10-EEE-FT1H221ALDKR-ND
footprint EEE-FT1H221AL
pins: 1, 2

## CAP CER 1uF 0805
designator C?, comment Capacitance: 1uF  (hidden comment: CL21B105KBFNNNE)
Multilayer Ceramic Capacitor, 1 uF, 50 V, ï¿½ 10%, X7R, 0805 [2012 Metric]; Manufacturer: Samsung; Voltage Rating (DC): 50V; Designed By: Kubilay Közleme; Supplier 1: Digikey; Manufacturer Part Number: CL21B105KBFNNNE; RoHS: Yes; Category: Ceramic Capacitors; Stock 1: 1081238; Pricing 1: 1=0.11, 10=0.075, 50=0.045, 100=0.0354, 500=0.02616, 1000=0.02165 (USD); Mount: Surface Mount; Case/Package: 0805; Material: Ceramic; Case Code (Metric): 2012; Case Code (Imperial): 0805; Min Operating Temperature: -55°C; Max Operating Temperature: 125°C; Tolerance: 10%; Packaging: Tape and Reel; Package Quantity: 1; Voltage Rating: 50V; Dielectric: X7R; Voltage: 50V; Series: CL; Construction: Flat; Length: 2mm; Width: 0.049inch; Height: 1.25mm; Thickness: 0.053inch; Depth: 1.25mm; Radiation Hardening: No; RoHS Compliant: Yes; ComponentLink1URL: https://datasheet.ciiva.com/25800/cl21b105kbfnnne-25800291.pdf?src-supplier=Digikey; ComponentLink1Description: https://datasheet.ciiva.com/25800/cl21b105kbfnnne-25800291.pdf?src-supplier=Digikey; Supplier Part Number 1: 1276-1029-1-ND
footprint CAP_0805
pins: 1, 2

## CAP CER 2u2F 0805
designator C?, comment Capacitor Value: 2u2F  (hidden comment: C0805C225K5RACAUTO)
Ceramic Capacitor, Multilayer, Ceramic, 50V, 10% +Tol, 10% -Tol, X7R, 15% TC, 2.2uF, Surface Mount, 0805; Manufacturer: KEMET; Designed By: Kubilay Közleme; Supplier 1: Digikey; Manufacturer Part Number: C0805C225K5RACAUTO; RoHS: No; Category: Ceramic Capacitors; Stock 1: 2500; Pricing 1: 2500=0.20006, 5000=0.18756, 12500=0.17193, 25000=0.1688 (USD); Supplier Part Number 1: 399-C0805C225K5RACAUTOTR-ND
footprint CAP_0805
pins: 1, 2

## CAP CER 4.7uF 0805
designator C?, comment Capacitance: 4.7uF  (hidden comment: CL21A475KAQNNNE)
Multilayer Ceramic Capacitor, 4.7 uF, 25 V, ± 10%, X5R, 0805 [2012 Metric]; Manufacturer: Samsung; Voltage Rating: 25V; Designed By: Kubilay Közleme; Supplier 1: Digikey; Manufacturer Part Number: CL21A475KAQNNNE; RoHS: Yes; Category: Ceramic Capacitors; Stock 1: 3035721; Pricing 1: 1=0.1, 10=0.069, 50=0.0414, 100=0.0326, 500=0.02408, 1000=0.01994 (USD); Mount: Surface Mount; Case/Package: 0805; Case Code (Metric): 2012; Case Code (Imperial): 0805; Material: Ceramic; Min Operating Temperature: -55°C; Max Operating Temperature: 85°C; Packaging: Tape and Reel; Tolerance: 10%; Dielectric: X5R; Voltage Rating (DC): 25V; Series: CL; Construction: Flat; Length: 2mm; Height: 1.25mm; Depth: 1.25mm; Radiation Hardening: No; Lead Free: Lead Free; RoHS Compliant: Yes; ComponentLink1URL: https://datasheet.ciiva.com/25798/cl21a475kaqnnne-25798882.pdf?src-supplier=Digikey; ComponentLink1Description: https://datasheet.ciiva.com/25798/cl21a475kaqnnne-25798882.pdf?src-supplier=Digikey; Supplier Part Number 1: 1276-1244-1-ND
footprint CAP_0805
pins: 1, 2

## CAP CER 10nF 0603
designator C?, comment value 10nF  (hidden comment: 0603B103K160CT)
0603 16V X7R .01uF 10% multilayer ceramic capacitor; Manufacturer: Walsin Technologies; Designed By: Kubilay Közleme; Supplier 1: Digikey; Manufacturer Part Number: 0603B103K160CT; RoHS: Yes; Category: Ceramic Capacitors; Stock 1: 65786; Pricing 1: 1=0.1, 10=0.031, 50=0.018, 100=0.0139, 500=0.0105, 1000=0.00825 (USD); Lead Free: 5697LeadFree; ComponentLink1URL: http://www.farnell.com/datasheets/1958513.pdf?src-supplier=Farnell; ComponentLink1Description: http://www.farnell.com/datasheets/1958513.pdf?src-supplier=Farnell; ComponentLink2URL: https://datasheet.octopart.com/0603B103K160CT-Walsin-Technologies-datasheet-136037192.pdf?src-supplier=Future+Electronics; ComponentLink2Description: https://datasheet.octopart.com/0603B103K160CT-Walsin-Technologies-datasheet-136037192.pdf?src-supplier=Future+Electronics; ComponentLink3URL: http://www.passivecomponent.com/wp-content/uploads/2018/10/MLCC.pdf?src-supplier=Digikey; ComponentLink3Description: http://www.passivecomponent.com/wp-content/uploads/2018/10/MLCC.pdf?src-supplier=Digikey; ComponentLink4URL: https://datasheet.octopart.com/0603B103K160CT-Walsin-Technologies-datasheet-85392065.pdf?src-supplier=Element14; ComponentLink4Description: https://datasheet.octopart.com/0603B103K160CT-Walsin-Technologies-datasheet-85392065.pdf?src-supplier=Element14; ComponentLink5URL: https://datasheet.octopart.com/0603B103K160CT-Walsin-Technologies-datasheet-62066062.pdf?src-supplier=TME; ComponentLink5Description: https://datasheet.octopart.com/0603B103K160CT-Walsin-Technologies-datasheet-62066062.pdf?src-supplier=TME; Supplier Part Number 1: 1292-1384-1-ND
footprint CAP_0603
pins: 1, 2

## CAP CER 10pF 0603
designator C?, comment Capacitance: 10pF  (hidden comment: CC0603FPNPO9BN100)
Ceramic Capacitor, Multilayer, Ceramic, 50V, 1% +Tol, 1% -Tol, C0G, 30ppm/Cel TC, 0.00001uF, Surface Mount, 0603; Manufacturer: Yageo; Multilayer: Yes; Designed By: Kubilay Közleme; Supplier 1: Digikey; Manufacturer Part Number: CC0603FPNPO9BN100; RoHS: Yes; Category: Ceramic Capacitors; Stock 1: 29990; Pricing 1: 1=0.16, 10=0.11, 50=0.0656, 100=0.0516, 500=0.03814, 1000=0.03157, 2500=0.02938, 5000=0.02688 (USD); Mount: Surface Mount; Number of Pins: 2; Dielectric Material: Ceramic; Package Shape: Rectangular; Size Code: 0603; Terminal Finish: Nickel; Min Operating Temperature: -55°C; Max Operating Temperature: 125°C; JESD-609 Code: e3; Capacitor Type: Ceramic; Negative Tolerance: 1%; Package Style: SMTMeter; Packaging: Tape and Reel; Positive Tolerance: 1%; Rated DC Voltage (URdc): 50V; Temperature Characteristics Code: C0G; Termination: Wraparound; Length: 1.6mm; Width: 0.8mm; Height: 0.8mm; Reach SVHC Compliant: Yes; RoHS Compliant: Yes; ComponentLink1URL: https://datasheet.ciiva.com:443/pdfs/VipMasterIC/IC/YAGO/YAGO-S-A0009251638/YAGO-S-A0009251638-1.pdf?src-supplier=IHS+Markit; ComponentLink1Description: https://datasheet.ciiva.com:443/pdfs/VipMasterIC/IC/YAGO/YAGO-S-A0009251638/YAGO-S-A0009251638-1.pdf?src-supplier=IHS+Markit; ComponentLink2URL: https://datasheet.ciiva.com/13207/upy-gp-np0-16v-to-50v-8-13207977.pdf?src-supplier=Mouser; ComponentLink2Description: https://datasheet.ciiva.com/13207/upy-gp-np0-16v-to-50v-8-13207977.pdf?src-supplier=Mouser; Supplier Part Number 1: 13-CC0603FPNPO9BN100CT-ND
footprint CAP_0603
pins: 1, 2

## CAP CER 10uF 50V 1206
designator C?, comment Capacitance: 10uF  (hidden comment: CL31B106KBHNNNE)
Ceramic Capacitor, Multilayer, Ceramic, 50V, 10% +Tol, 10% -Tol, X7R, 15% TC, 10uF, Surface Mount, 1206; Manufacturer: Samsung; Multilayer: Yes; Designed By: Kubilay Közleme; Supplier 1: Digikey; Manufacturer Part Number: CL31B106KBHNNNE; RoHS: Yes; Category: Ceramic Capacitors; Stock 1: 930560; Pricing 1: 1=0.36, 10=0.21, 50=0.1516, 100=0.1333, 500=0.10224, 1000=0.09256 (USD); Mount: Surface Mount; Number of Pins: 2; Dielectric Material: Ceramic; Package Shape: Rectangular; Size Code: 1206; Terminal Finish: Nickel; Min Operating Temperature: -55°C; Max Operating Temperature: 125°C; JESD-609 Code: e3; Capacitor Type: Ceramic; Negative Tolerance: 10%; Package Style: SMTMeter; Packaging: Tape and Reel; Positive Tolerance: 10%; Rated DC Voltage (URdc): 50V; Temperature Characteristics Code: X7R; Termination: Wraparound; Length: 3.2mm; Width: 1.6mm; Height: 1.8mm; Reach SVHC Compliant: Yes; RoHS Compliant: Yes; ComponentLink1URL: https://datasheet.ciiva.com:443/pdfs/VipMasterIC/IC/SEMS/SEMS-S-A0008524842/SEMS-S-A0008524770-1.pdf?src-supplier=IHS+Markit; ComponentLink1Description: https://datasheet.ciiva.com:443/pdfs/VipMasterIC/IC/SEMS/SEMS-S-A0008524842/SEMS-S-A0008524770-1.pdf?src-supplier=IHS+Markit; ComponentLink2URL: https://datasheet.octopart.com/CL31B106KBHNNNE-Samsung-Electro-Mechanics-datasheet-149066874.pdf?src-supplier=Future+Electronics; ComponentLink2Description: https://datasheet.octopart.com/CL31B106KBHNNNE-Samsung-Electro-Mechanics-datasheet-149066874.pdf?src-supplier=Future+Electronics; ComponentLink3URL: http://www.samsungsem.com/kr/support/product-search/mlcc/CL31B106KBHNNNE.jsp?src-supplier=Digikey; ComponentLink3Description: http://www.samsungsem.com/kr/support/product-search/mlcc/CL31B106KBHNNNE.jsp?src-supplier=Digikey; ComponentLink4URL: https://datasheet.octopart.com/CL31B106KBHNNNE-Samsung-Electro-Mechanics-datasheet-110617700.pdf?src-supplier=LCSC; ComponentLink4Description: https://datasheet.octopart.com/CL31B106KBHNNNE-Samsung-Electro-Mechanics-datasheet-110617700.pdf?src-supplier=LCSC; Supplier Part Number 1: 1276-6767-6-ND
footprint CAP_1206
pins: 1, 2

## CAP CER 10uF 0603
designator C?, comment value 10uF  (hidden comment: ZRB18AR61C106ME01L)
Ceramic Capacitor, Multilayer, Ceramic, 16V, 20% +Tol, 20% -Tol, X5R, 15% TC, 10uF, Surface Mount, 0603; Manufacturer: Murata; Designed By: Kubilay Közleme; Supplier 1: Digikey; RoHS: Yes; Category: Ceramic Capacitors; Stock 1: 123060; Pricing 1: 1=0.48, 10=0.284, 50=0.2068, 100=0.1828, 500=0.14188, 1000=0.1291 (USD); Number of Pins: 2; Dielectric Material: Ceramic; Capacitor Type: Ceramic; Reach SVHC Compliant: Yes; RoHS Compliant: Yes; ComponentLink1URL: https://datasheet.ciiva.com:443/pdfs/VipMasterIC/IC/MURE/MURE-S-A0004380799/MURE-S-A0004414209-1.pdf?src-supplier=IHS+Markit; ComponentLink1Description: https://datasheet.ciiva.com:443/pdfs/VipMasterIC/IC/MURE/MURE-S-A0004380799/MURE-S-A0004414209-1.pdf?src-supplier=IHS+Markit; ComponentLink2URL: http://www.farnell.com/datasheets/2163235.pdf?src-supplier=Farnell; ComponentLink2Description: http://www.farnell.com/datasheets/2163235.pdf?src-supplier=Farnell; ComponentLink3URL: http://search.murata.co.jp/Ceramy/image/img/A01X/G101/ENG/ZRB18AR61C106ME01-01.pdf?src-supplier=Digikey; ComponentLink3Description: http://search.murata.co.jp/Ceramy/image/img/A01X/G101/ENG/ZRB18AR61C106ME01-01.pdf?src-supplier=Digikey; ComponentLink4URL: http://www.farnell.com/datasheets/2163235.pdf?src-supplier=Newark; ComponentLink4Description: http://www.farnell.com/datasheets/2163235.pdf?src-supplier=Newark; ComponentLink5URL: http://www.farnell.com/datasheets/2163235.pdf?src-supplier=Element14; ComponentLink5Description: http://www.farnell.com/datasheets/2163235.pdf?src-supplier=Element14; ComponentLink6URL: https://datasheet.octopart.com/ZRB18AR61C106ME01L-Murata-datasheet-62317488.pdf?src-supplier=Element14; ComponentLink6Description: https://datasheet.octopart.com/ZRB18AR61C106ME01L-Murata-datasheet-62317488.pdf?src-supplier=Element14; ComponentLink7URL: https://datasheet.octopart.com/ZRB18AR61C106ME01L-Murata-datasheet-67356777.pdf?src-supplier=Newark; ComponentLink7Description: https://datasheet.octopart.com/ZRB18AR61C106ME01L-Murata-datasheet-67356777.pdf?src-supplier=Newark; ComponentLink8URL: https://datasheet.octopart.com/ZRB18AR61C106ME01L-Murata-datasheet-86813782.pdf?src-supplier=Future+Electronics; ComponentLink8Description: https://datasheet.octopart.com/ZRB18AR61C106ME01L-Murata-datasheet-86813782.pdf?src-supplier=Future+Electronics; ComponentLink9URL: https://datasheet.octopart.com/ZRB18AR61C106ME01L-Murata-datasheet-166166242.pdf?src-supplier=TME; ComponentLink9Description: https://datasheet.octopart.com/ZRB18AR61C106ME01L-Murata-datasheet-166166242.pdf?src-supplier=TME; Supplier Part Number 1: 490-10990-6-ND; Manufacturer Part Number: ZRB18AR61C106ME01L
footprint CAP_0603
pins: 1, 2

## CAP CER 15pF 0603
designator C?, comment Capacitance: 15pF  (hidden comment: CC0603FRNPO9BN150)
Ceramic Capacitor, Multilayer, Ceramic, 50V, 1% +Tol, 1% -Tol, C0G, 30ppm/Cel TC, 0.000015uF, Surface Mount, 0603; Manufacturer: Yageo; Multilayer: Yes; Designed By: Kubilay Közleme; Supplier 1: Digikey; Manufacturer Part Number: CC0603FRNPO9BN150; RoHS: Yes; Category: Ceramic Capacitors; Stock 1: 12018; Pricing 1: 1=0.17, 10=0.113, 50=0.0676, 100=0.0531, 500=0.03922, 1000=0.03246 (USD); Mount: Surface Mount; Number of Pins: 2; Dielectric Material: Ceramic; Package Shape: Rectangular; Size Code: 0603; Terminal Finish: Nickel; Min Operating Temperature: -55°C; Max Operating Temperature: 125°C; JESD-609 Code: e3; Capacitor Type: Ceramic; Negative Tolerance: 1%; Package Style: SMTMeter; Packaging: Tape and Reel; Positive Tolerance: 1%; Rated DC Voltage (URdc): 50V; Temperature Characteristics Code: C0G; Termination: Wraparound; Length: 1.6mm; Width: 0.8mm; Height: 0.8mm; Reach SVHC Compliant: Yes; RoHS Compliant: Yes; ComponentLink1URL: https://datasheet.ciiva.com:443/pdfs/VipMasterIC/IC/YAGO/YAGO-S-A0009251638/YAGO-S-A0009251638-1.pdf?src-supplier=IHS+Markit; ComponentLink1Description: https://datasheet.ciiva.com:443/pdfs/VipMasterIC/IC/YAGO/YAGO-S-A0009251638/YAGO-S-A0009251638-1.pdf?src-supplier=IHS+Markit; ComponentLink2URL: https://datasheet.ciiva.com/11586/upy-gp-np0-16v-to-50v-8-11586461.pdf?src-supplier=Avnet; ComponentLink2Description: https://datasheet.ciiva.com/11586/upy-gp-np0-16v-to-50v-8-11586461.pdf?src-supplier=Avnet; Supplier Part Number 1: 311-3887-6-ND
footprint CAP_0603
pins: 1, 2

## CAP CER 20pF 0603
designator C?, comment value 20pF  (hidden comment: CL10C200JB8NNNC)
Multilayer Ceramic Capacitor, 20 pF, 50 V, ± 5%, C0G (NP0), 0603 [1608 Metric]; Manufacturer: Samsung; Voltage Rating (DC): 50V; Designed By: Kubilay Közleme; Supplier 1: Digikey; Manufacturer Part Number: CL10C200JB8NNNC; RoHS: Yes; Category: Ceramic Capacitors; Stock 1: 266340; Pricing 1: 1=0.1, 10=0.041, 50=0.0238, 100=0.0184, 500=0.01386, 1000=0.01089 (USD); ComponentLink1URL: https://datasheet.ciiva.com/26877/getdatasheetpartid-640634-26877974.pdf?src-supplier=Verical; ComponentLink1Description: https://datasheet.ciiva.com/26877/getdatasheetpartid-640634-26877974.pdf?src-supplier=Verical; ComponentLink2URL: https://datasheet.ciiva.com/26310/mlcc-catalogdownload2013-eng-26310315.pdf?src-supplier=Distrelec; ComponentLink2Description: https://datasheet.ciiva.com/26310/mlcc-catalogdownload2013-eng-26310315.pdf?src-supplier=Distrelec; Supplier Part Number 1: 1276-1187-1-ND
footprint CAP_0603
pins: 1, 2